# Altium footprint library 5-STM32F407ZGT6MINI最小系统.PcbLib: 19 footprints (part 1 of 2)
Each footprint in its own frame and in the unit in brackets; x right, y up, seen from the top. Pads: shape width x height; smd on the part's side, far side on the other; paste and mask are expansions set on the pad; w line width, h text height; cw(c..) or ccw(c..) is an arc to the next point about the centre after c.
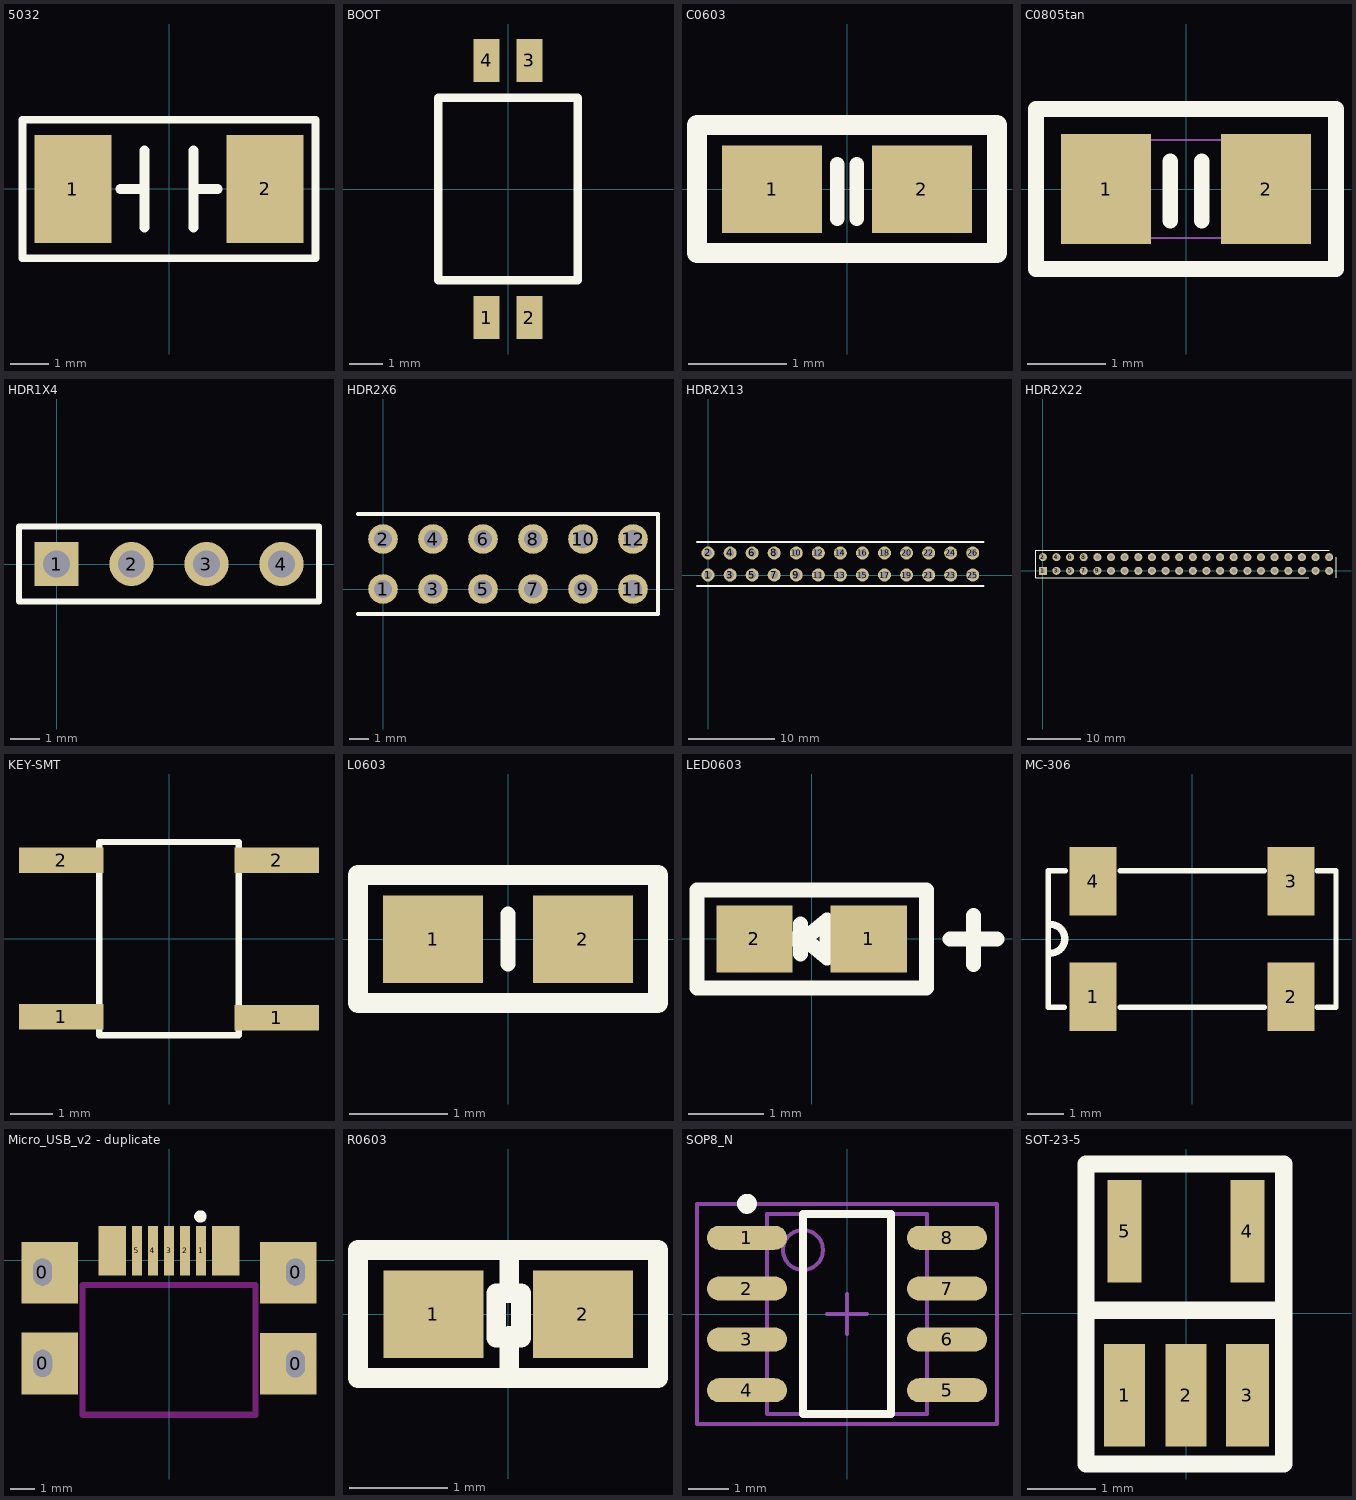
[diagram p0: the footprints below, top view; thin cyan lines are the x and y axes]

## 5032 [mm]
height 4.32
pads (2):
  rect 2x2.8 smd: 1(-2.5,0) 2(2.5,0)
Top Overlay:
  lines w0.2: -3.81,-1.8 -3.81,1.8 3.81,1.8 3.81,-1.8 -3.81,-1.8
  lines w0.254: -1.27,0 -0.635,0 ; -0.635,-1 -0.635,1 ; 0.635,-1 0.635,1 ; 0.635,0 1.27,0

## BOOT [mm]
height 1.73
pads (4):
  rect 0.76x1.27 smd: 1(-0.635,-3.81) 2(0.635,-3.81) 3(0.635,3.81) 4(-0.635,3.81)
Top Overlay:
  lines w0.254: -2.07,-2.7 2.07,-2.7 2.07,2.7 -2.07,2.7 -2.07,-2.7

## C0603 [mil]
height 47.24
pads (2):
  rect 40x35 smd: 1(-29.92,0) 2(29.92,0)
Top Overlay:
  lines w5.91: -3.94,-11.81 -3.94,9.84 ; 3.94,-11.81 3.94,9.84
  lines w7.87: -60,-25.59 -60,25.59 60,25.59 60,-25.59 -60,-25.59

## C0805tan [mil]
height 104.33
pads (2):
  rect 45x55 smd: 1(-40,0) 2(40,0)
Top Overlay:
  lines w7.87: -7.87,-15.75 -7.87,13.78 ; 7.87,-15.75 7.87,13.78 ; -75,-40 75,-40 75,40 -75,40 -75,-40
Mechanical 8:
  lines w1: -39.37,-24.61 39.37,-24.61 39.37,24.61 -39.37,24.61 -39.37,-24.61

## HDR1X4 [mm]
height 4.32
pads (4):
  rect 1.5x1.5 hole 0.9: 1(0,0)
  round 1.5 hole 0.9: 2(2.54,0) 3(5.08,0) 4(7.62,0)
Top Overlay:
  lines w0.2: -1.27,-1.27 -1.27,1.27 8.89,1.27 8.89,-1.27 -1.27,-1.27

## HDR2X6 [mm]
pads (12):
  round 1.5 hole 0.9: 1(0,0) 2(0,2.54) 3(2.54,0) 4(2.54,2.54) 5(5.08,0) 6(5.08,2.54) 7(7.62,0) 8(7.62,2.54) 9(10.16,0) 10(10.16,2.54) 11(12.7,0) 12(12.7,2.54)
Top Overlay:
  lines w0.2: -1.27,-1.27 13.97,-1.27 13.97,3.81 -1.27,3.81

## HDR2X13 [mm]
pads (26):
  round 1.5 hole 0.9: 1(0,0) 2(0,2.54) 3(2.54,0) 4(2.54,2.54) 5(5.08,0) 6(5.08,2.54) 7(7.62,0) 8(7.62,2.54) 9(10.16,0) 10(10.16,2.54) 11(12.7,0) 12(12.7,2.54) 13(15.24,0) 14(15.24,2.54) 15(17.78,0) 16(17.78,2.54) 17(20.32,0) 18(20.32,2.54) 19(22.86,0) 20(22.86,2.54) 21(25.4,0) 22(25.4,2.54) 23(27.94,0) 24(27.94,2.54) 25(30.48,0) 26(30.48,2.54)
Top Overlay:
  lines w0.2: -1.27,-1.27 31.75,-1.27 ; -1.27,3.81 31.75,3.81

## HDR2X22 [mm]
pads (44):
  rect 1.5x1.5 hole 0.9: 1(0,0)
  round 1.5 hole 0.9: 2(0,2.54) 3(2.54,0) 4(2.54,2.54) 5(5.08,0) 6(5.08,2.54) 7(7.62,0) 8(7.62,2.54) 9(10.16,0) 10(10.16,2.54) 11(12.7,0) 12(12.7,2.54) 13(15.24,0) 14(15.24,2.54) 15(17.78,0) 16(17.78,2.54) 17(20.32,0) 18(20.32,2.54) 19(22.86,0) 20(22.86,2.54) 21(25.4,0) 22(25.4,2.54) 23(27.94,0) 24(27.94,2.54) 25(30.48,0) 26(30.48,2.54) 27(33.02,0) 28(33.02,2.54) 29(35.56,0) 30(35.56,2.54) 31(38.1,0) 32(38.1,2.54) 33(40.64,0) 34(40.64,2.54) 35(43.18,0) 36(43.18,2.54) 37(45.72,0) 38(45.72,2.54) 39(48.26,0) 40(48.26,2.54) 41(50.8,0) 42(50.8,2.54) 43(53.34,0) 44(53.34,2.54)
Top Overlay:
  lines w0.2: 49.53,-1.27 -1.27,-1.27 -1.27,3.81 53.34,3.81 ; 54.61,-1.27 54.61,2.54

## KEY-SMT [mm]
height 4.32
pads (4):
  rect 2x0.6 smd: 1(-2.55,-1.85) 1(2.55,-1.87) 2(-2.55,1.85) 2(2.55,1.85)
Top Overlay:
  lines w0.152: -1.651,-2.286 1.651,-2.286 1.651,2.286 -1.651,2.286 -1.651,-2.286

## L0603 [mil]
height 170.08
pads (2):
  rect 40x35 smd: 1(-29.92,0) 2(29.92,0)
Top Overlay:
  lines w5.91: 0,-10 0,10
  lines w7.87: -60,-25.59 60,-25.59 60,25.59 -60,25.59 -60,-25.59

## LED0603 [mil]
height 170.08
pads (2):
  rect 40x35 smd: 1(29.92,0) 2(-29.92,0)
Top Overlay:
  lines w7.87: -11.69,0 -3.81,0 ; -5.78,-7.87 -5.78,7.87 ; 8,0 15.87,0 ; 72.41,0 97,0 ; 84.64,-13.41 84.64,12.19 ; -3.81,0 8,9.84 8,-9.84 -3.81,0 ; -60,-25.59 -60,25.59 60,25.59 60,-25.59 -60,-25.59

## MC-306 [mm]
height 1.6
pads (4):
  rect 1.3x1.9 smd: 1(-2.75,-1.6) 2(2.75,-1.6) 3(2.75,1.6) 4(-2.75,1.6)
Top Overlay:
  lines w0.152: -3.556,-1.9 -4,-1.9 -4,1.9 -3.531,1.9 ; -2,-1.9 2,-1.9 ; -2,1.9 2,1.9 ; 3.48,-1.9 4,-1.9 4,1.9 3.48,1.9
  lines w0.2: -3.937,-0.394 ccw(c-3.937,0.006) -3.937,0.406

## Micro_USB_v2 - duplicate [mm]
height 1.05
pads (15):
  round 1.524 hole 0.762 slot 1.1 at 90 deg: 0(-5.125,-0.475) 0(-5.12,-4.175) 0(5.125,-4.191) 0(5.125,-0.475)
  rect 0.4x2 smd: 1(1.3,0.381) 2(0.65,0.381) 3(0,0.381) 4(-0.65,0.381) 5(-1.3,0.381)
  rect 2.3x2.5 smd: ""(-4.826,-4.175) ""(-4.826,-0.508) ""(4.826,-4.191) ""(4.826,-0.508)
  rect 1.1x2 smd: ""(-2.3,0.381) ""(2.3,0.381)
Top Overlay:
  circle w0.25: c1.272,1.778 r0.125
Keep-Out Layer:
  lines w0.254: -3.5,-6.25 -3.5,-1 ; -3.45,-6.25 3.5,-6.25 3.5,-1 ; -3.45,-1 3.45,-1
  lines w0.6: -5.125,-0.635 -5.125,-0.262 ; -5.12,-4.335 -5.12,-3.962 ; 5.125,-4.445 5.125,-3.962 ; 5.125,-0.762 5.125,-0.262

## R0603 [mil]
height 47.24
pads (2):
  rect 40x35 smd: 1(-29.92,0) 2(29.92,0)
Top Overlay:
  lines w7.87: 0.39,-21.65 0.39,-8.66 ; 0.39,9.45 0.39,21.65 ; -60.07,-25.59 59.93,-25.59 59.93,25.59 -60.07,25.59 -60.07,-25.59 ; -4.72,-9.45 -4.72,8.27 5.12,8.27 5.12,-9.45 -4.72,-9.45

## SOP8_N [mm]
height 1.75
pads (8):
  oval 2x0.6 smd: 1(-2.5,1.905) 2(-2.5,0.635) 3(-2.5,-0.635) 4(-2.5,-1.905) 5(2.5,-1.905) 6(2.5,-0.635) 7(2.5,0.635) 8(2.5,1.905)
Top Overlay:
  circle w0.25: c-2.5,2.755 r0.125
  lines w0.2: -1.1,-2.5 -1.1,2.5 1.1,2.5 1.1,-2.5 -1.1,-2.5
Mechanical 13:
  circle w0.1: c-1.1,1.6 r0.5
  lines w0.1: -2,-2.5 -2,2.5 2,2.5 2,-2.5 -2,-2.5
Mechanical 15:
  lines w0.1: -0.5,0 0.5,0 ; 0,-0.5 0,0.5 ; -3.75,-2.75 -3.75,2.75 3.75,2.75 3.75,-2.75 -3.75,-2.75
3D body: height 1.75, standoff 0, extent -2,-2.5 2,2.5

## SOT-23-5 [mm]
height 4.32
pads (5):
  rect 0.6x1.5 smd: 1(-0.9,-1.2) 2(0,-1.2)
  rect 0.63x1.5 smd: 3(0.9,-1.2)
  rect 0.5x1.5 smd: 4(0.9,1.2) 5(-0.9,1.2)
Top Overlay:
  lines w0.254: -1.466,0.041 1.43,0.041 ; -1.466,-2.21 -1.466,2.184 1.43,2.184 1.43,-2.21 -1.466,-2.21